# Altium footprint library LED.PcbLib: 20 footprints (part 1 of 2)
Each footprint in its own frame and in the unit in brackets; x right, y up, seen from the top. Pads: shape width x height; smd on the part's side, far side on the other; paste and mask are expansions set on the pad; w line width, h text height; cw(c..) or ccw(c..) is an arc to the next point about the centre after c.
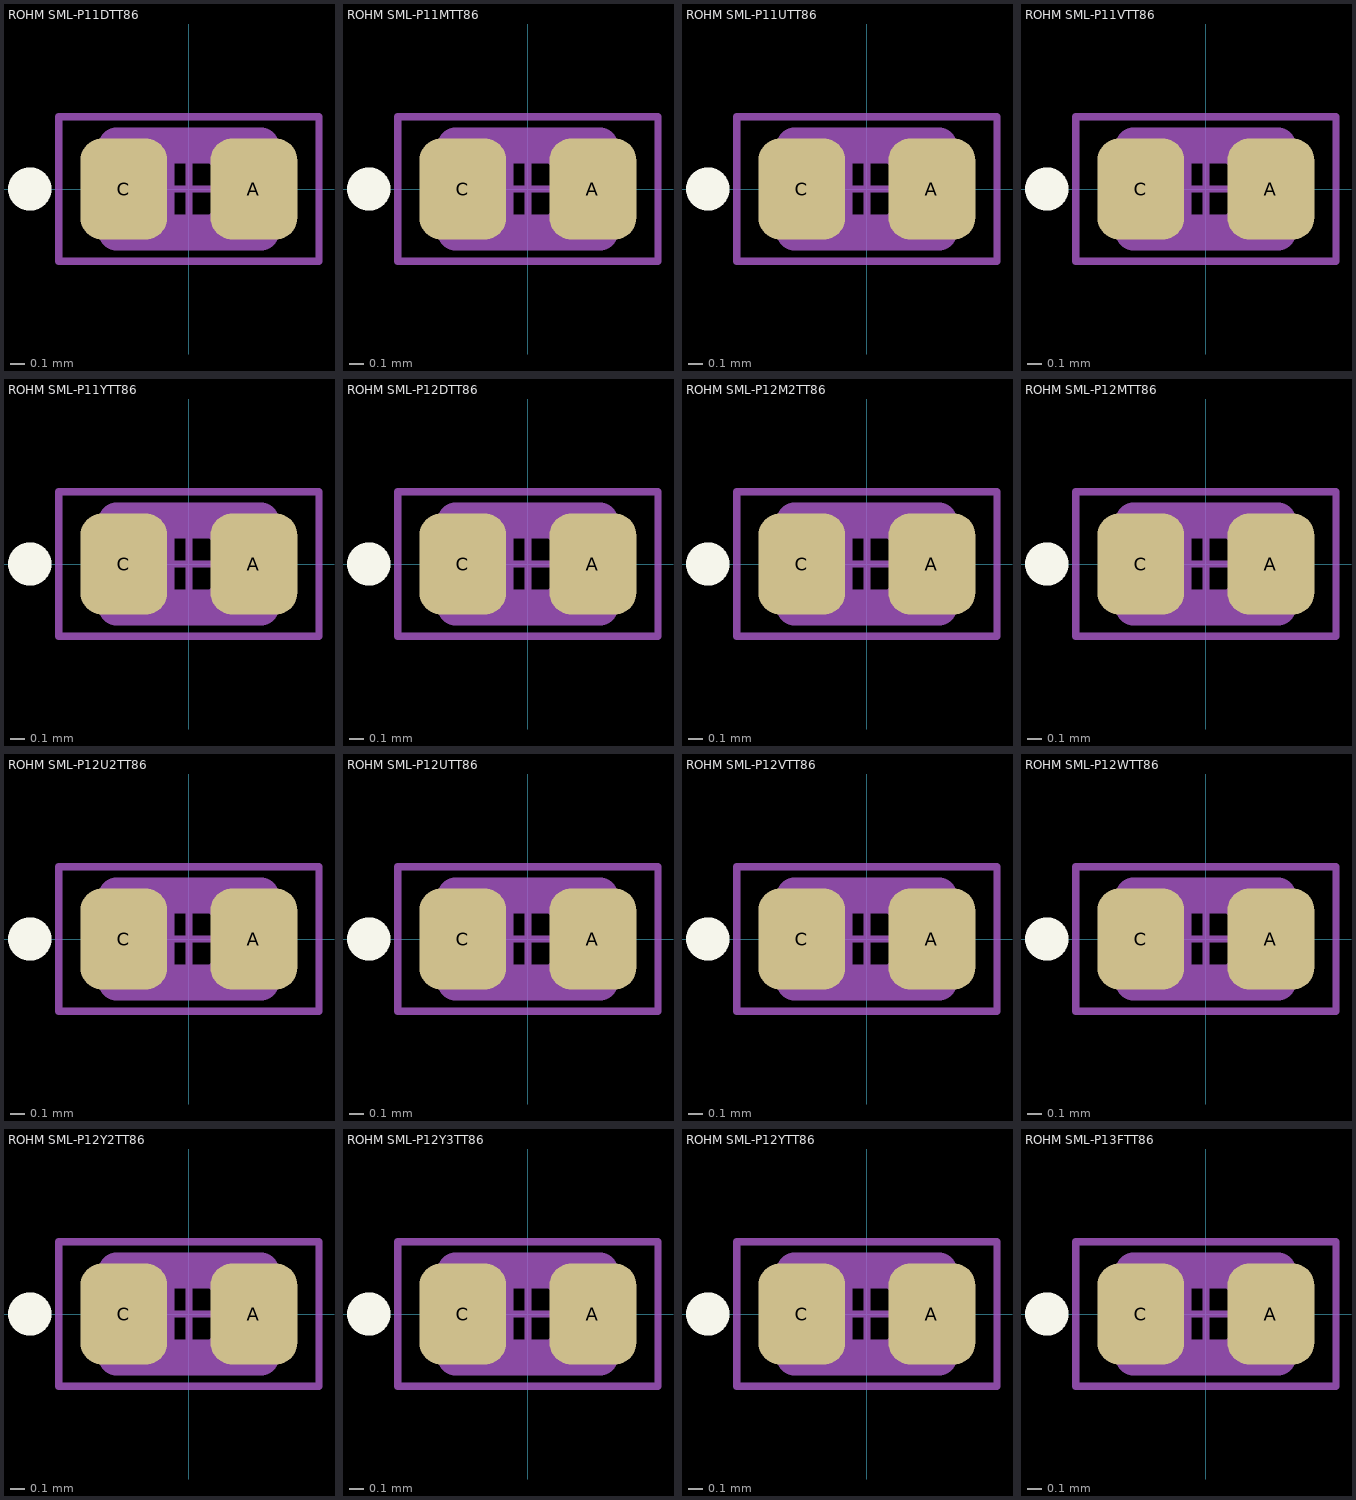
[diagram p0: the footprints below, top view; thin cyan lines are the x and y axes]

## ROHM SML-P11DTT86 [mm] "ROHM LED 0402 Top View Orange (Code D) 1.0x0.6x0.25"
height 0.25
pads (2):
  rrect50% 0.6x0.7 smd: A(0.45,0) C(-0.45,0)
Top Overlay:
  circle w0.15: c-1.1,0 r0.075
Top Assembly:
  rectangle: -0.5,-0.3 -0.1,0.3
  lines w0.25: -0.5,-0.3 -0.5,0.3 0.5,0.3 0.5,-0.3 -0.5,-0.3
  text ".Designator" at -3.378,1.061 h1.5
Top Courtyard:
  circle w0.05: c0,0 r0.25
  lines w0.05: -0.35,0 0.35,0 ; 0,-0.35 0,0.35 ; -0.9,-0.5 -0.9,0.5 0.9,0.5 0.9,-0.5 -0.9,-0.5
3D body "SML-P11DT(R)_Orange.STEP": height 0.2, standoff 0, extent -0.5,-0.3 0.5,0.3

## ROHM SML-P11MTT86 [mm] "ROHM LED 0402 Top View Yellow-green (Code M) 1.0x0.6x0.25"
height 0.25
pads (2):
  rrect50% 0.6x0.7 smd: A(0.45,0) C(-0.45,0)
Top Overlay:
  circle w0.15: c-1.1,0 r0.075
Top Assembly:
  rectangle: -0.5,-0.3 -0.1,0.3
  lines w0.25: -0.5,-0.3 -0.5,0.3 0.5,0.3 0.5,-0.3 -0.5,-0.3
  text ".Designator" at -3.378,1.061 h1.5
Top Courtyard:
  circle w0.05: c0,0 r0.25
  lines w0.05: -0.35,0 0.35,0 ; 0,-0.35 0,0.35 ; -0.9,-0.5 -0.9,0.5 0.9,0.5 0.9,-0.5 -0.9,-0.5
3D body "SML-P11MT(R)_Yellow-green.STEP": height 0.2, standoff 0, extent -0.5,-0.3 0.5,0.3

## ROHM SML-P11UTT86 [mm] "ROHM LED 0402 Top View Red (Code U) 1.0x0.6x0.25"
height 0.25
pads (2):
  rrect50% 0.6x0.7 smd: A(0.45,0) C(-0.45,0)
Top Overlay:
  circle w0.15: c-1.1,0 r0.075
Top Assembly:
  rectangle: -0.5,-0.3 -0.1,0.3
  lines w0.25: -0.5,-0.3 0.5,-0.3 0.5,0.3 -0.5,0.3 -0.5,-0.3
  text ".Designator" at -3.378,1.061 h1.5
Top Courtyard:
  circle w0.05: c0,0 r0.25
  lines w0.05: -0.35,0 0.35,0 ; 0,-0.35 0,0.35 ; -0.9,-0.5 0.9,-0.5 0.9,0.5 -0.9,0.5 -0.9,-0.5
3D body "SML-P11UT(R)_Red.STEP": height 0.2, standoff 0, extent -0.5,-0.3 0.5,0.3

## ROHM SML-P11VTT86 [mm] "ROHM LED 0402 Top View Red (Code V) 1.0x0.6x0.25"
height 0.25
pads (2):
  rrect50% 0.6x0.7 smd: A(0.45,0) C(-0.45,0)
Top Overlay:
  circle w0.15: c-1.1,0 r0.075
Top Assembly:
  rectangle: -0.5,-0.3 -0.1,0.3
  lines w0.25: -0.5,-0.3 0.5,-0.3 0.5,0.3 -0.5,0.3 -0.5,-0.3
  text ".Designator" at -3.378,1.061 h1.5
Top Courtyard:
  circle w0.05: c0,0 r0.25
  lines w0.05: -0.35,0 0.35,0 ; 0,-0.35 0,0.35 ; -0.9,-0.5 0.9,-0.5 0.9,0.5 -0.9,0.5 -0.9,-0.5
3D body "SML-P11VT(R)_Red.STEP": height 0.2, standoff 0, extent -0.5,-0.3 0.5,0.3

## ROHM SML-P11YTT86 [mm] "ROHM LED 0402 Top View Yellow (Code Y) 1.0x0.6x0.25"
height 0.25
pads (2):
  rrect50% 0.6x0.7 smd: A(0.45,0) C(-0.45,0)
Top Overlay:
  circle w0.15: c-1.1,0 r0.075
Top Assembly:
  rectangle: -0.5,-0.3 -0.1,0.3
  lines w0.25: -0.5,-0.3 -0.5,0.3 0.5,0.3 0.5,-0.3 -0.5,-0.3
  text ".Designator" at -3.378,1.061 h1.5
Top Courtyard:
  circle w0.05: c0,0 r0.25
  lines w0.05: -0.35,0 0.35,0 ; 0,-0.35 0,0.35 ; -0.9,-0.5 -0.9,0.5 0.9,0.5 0.9,-0.5 -0.9,-0.5
3D body "SML-P11YT(R)_Yellow.STEP": height 0.2, standoff 0, extent -0.5,-0.3 0.5,0.3

## ROHM SML-P12DTT86 [mm] "ROHM LED 0402 Top View Orange (Code D) 1.0x0.6x0.25"
height 0.25
pads (2):
  rrect50% 0.6x0.7 smd: A(0.45,0) C(-0.45,0)
Top Overlay:
  circle w0.15: c-1.1,0 r0.075
Top Assembly:
  rectangle: -0.5,-0.3 -0.1,0.3
  lines w0.25: -0.5,-0.3 -0.5,0.3 0.5,0.3 0.5,-0.3 -0.5,-0.3
  text ".Designator" at -3.378,1.061 h1.5
Top Courtyard:
  circle w0.05: c0,0 r0.25
  lines w0.05: -0.35,0 0.35,0 ; 0,-0.35 0,0.35 ; -0.9,-0.5 -0.9,0.5 0.9,0.5 0.9,-0.5 -0.9,-0.5
3D body "SML-P12DT(R)_Orange.STEP": height 0.2, standoff 0, extent -0.5,-0.3 0.5,0.3

## ROHM SML-P12M2TT86 [mm] "ROHM LED 0402 Top View Yellow-green (Code M2) 1.0x0.6x0.25"
height 0.25
pads (2):
  rrect50% 0.6x0.7 smd: A(0.45,0) C(-0.45,0)
Top Overlay:
  circle w0.15: c-1.1,0 r0.075
Top Assembly:
  rectangle: -0.5,-0.3 -0.1,0.3
  lines w0.25: -0.5,-0.3 -0.5,0.3 0.5,0.3 0.5,-0.3 -0.5,-0.3
  text ".Designator" at -3.378,1.061 h1.5
Top Courtyard:
  circle w0.05: c0,0 r0.25
  lines w0.05: -0.35,0 0.35,0 ; 0,-0.35 0,0.35 ; -0.9,-0.5 -0.9,0.5 0.9,0.5 0.9,-0.5 -0.9,-0.5
3D body "SML-P12M2T(R)_Yellow-green.STEP": height 0.2, standoff 0, extent -0.5,-0.3 0.5,0.3

## ROHM SML-P12MTT86 [mm] "ROHM LED 0402 Top View Yellow-green (Code M) 1.0x0.6x0.25"
height 0.25
pads (2):
  rrect50% 0.6x0.7 smd: A(0.45,0) C(-0.45,0)
Top Overlay:
  circle w0.15: c-1.1,0 r0.075
Top Assembly:
  rectangle: -0.5,-0.3 -0.1,0.3
  lines w0.25: -0.5,-0.3 -0.5,0.3 0.5,0.3 0.5,-0.3 -0.5,-0.3
  text ".Designator" at -3.378,1.061 h1.5
Top Courtyard:
  circle w0.05: c0,0 r0.25
  lines w0.05: -0.35,0 0.35,0 ; 0,-0.35 0,0.35 ; -0.9,-0.5 -0.9,0.5 0.9,0.5 0.9,-0.5 -0.9,-0.5
3D body "SML-P12MT(R)_Yellow-green.STEP": height 0.2, standoff 0, extent -0.5,-0.3 0.5,0.3

## ROHM SML-P12U2TT86 [mm] "ROHM LED 0402 Top View Red (Code U2) 1.0x0.6x0.25"
height 0.25
pads (2):
  rrect50% 0.6x0.7 smd: A(0.45,0) C(-0.45,0)
Top Overlay:
  circle w0.15: c-1.1,0 r0.075
Top Assembly:
  rectangle: -0.5,-0.3 -0.1,0.3
  lines w0.25: -0.5,-0.3 0.5,-0.3 0.5,0.3 -0.5,0.3 -0.5,-0.3
  text ".Designator" at -3.378,1.061 h1.5
Top Courtyard:
  circle w0.05: c0,0 r0.25
  lines w0.05: -0.35,0 0.35,0 ; 0,-0.35 0,0.35 ; -0.9,-0.5 0.9,-0.5 0.9,0.5 -0.9,0.5 -0.9,-0.5
3D body "SML-P12U2T(R)_Red.STEP": height 0.2, standoff 0, extent -0.5,-0.3 0.5,0.3

## ROHM SML-P12UTT86 [mm] "ROHM LED 0402 Top View Red (Code U) 1.0x0.6x0.25"
height 0.25
pads (2):
  rrect50% 0.6x0.7 smd: A(0.45,0) C(-0.45,0)
Top Overlay:
  circle w0.15: c-1.1,0 r0.075
Top Assembly:
  rectangle: -0.5,-0.3 -0.1,0.3
  lines w0.25: -0.5,-0.3 0.5,-0.3 0.5,0.3 -0.5,0.3 -0.5,-0.3
  text ".Designator" at -3.378,1.061 h1.5
Top Courtyard:
  circle w0.05: c0,0 r0.25
  lines w0.05: -0.35,0 0.35,0 ; 0,-0.35 0,0.35 ; -0.9,-0.5 0.9,-0.5 0.9,0.5 -0.9,0.5 -0.9,-0.5
3D body "SML-P12UT(R)_Red.STEP": height 0.2, standoff 0, extent -0.5,-0.3 0.5,0.3

## ROHM SML-P12VTT86 [mm] "ROHM LED 0402 Top View Red (Code V) 1.0x0.6x0.25"
height 0.25
pads (2):
  rrect50% 0.6x0.7 smd: A(0.45,0) C(-0.45,0)
Top Overlay:
  circle w0.15: c-1.1,0 r0.075
Top Assembly:
  rectangle: -0.5,-0.3 -0.1,0.3
  lines w0.25: -0.5,-0.3 0.5,-0.3 0.5,0.3 -0.5,0.3 -0.5,-0.3
  text ".Designator" at -3.378,1.061 h1.5
Top Courtyard:
  circle w0.05: c0,0 r0.25
  lines w0.05: -0.35,0 0.35,0 ; 0,-0.35 0,0.35 ; -0.9,-0.5 0.9,-0.5 0.9,0.5 -0.9,0.5 -0.9,-0.5
3D body "SML-P12VT(R)_Red.STEP": height 0.2, standoff 0, extent -0.5,-0.3 0.5,0.3

## ROHM SML-P12WTT86 [mm] "ROHM LED 0402 Top View Yellow (Code W) 1.0x0.6x0.25"
height 0.25
pads (2):
  rrect50% 0.6x0.7 smd: A(0.45,0) C(-0.45,0)
Top Overlay:
  circle w0.15: c-1.1,0 r0.075
Top Assembly:
  rectangle: -0.5,-0.3 -0.1,0.3
  lines w0.25: -0.5,-0.3 -0.5,0.3 0.5,0.3 0.5,-0.3 -0.5,-0.3
  text ".Designator" at -3.378,1.061 h1.5
Top Courtyard:
  circle w0.05: c0,0 r0.25
  lines w0.05: -0.35,0 0.35,0 ; 0,-0.35 0,0.35 ; -0.9,-0.5 -0.9,0.5 0.9,0.5 0.9,-0.5 -0.9,-0.5
3D body "SML-P12WT(R)_Yellow.STEP": height 0.2, standoff 0, extent -0.5,-0.3 0.5,0.3

## ROHM SML-P12Y2TT86 [mm] "ROHM LED 0402 Top View Yellow (Code Y2) 1.0x0.6x0.25"
height 0.25
pads (2):
  rrect50% 0.6x0.7 smd: A(0.45,0) C(-0.45,0)
Top Overlay:
  circle w0.15: c-1.1,0 r0.075
Top Assembly:
  rectangle: -0.5,-0.3 -0.1,0.3
  lines w0.25: -0.5,-0.3 -0.5,0.3 0.5,0.3 0.5,-0.3 -0.5,-0.3
  text ".Designator" at -3.378,1.061 h1.5
Top Courtyard:
  circle w0.05: c0,0 r0.25
  lines w0.05: -0.35,0 0.35,0 ; 0,-0.35 0,0.35 ; -0.9,-0.5 -0.9,0.5 0.9,0.5 0.9,-0.5 -0.9,-0.5
3D body "SML-P12Y2T(R)_Yellow.STEP": height 0.2, standoff 0, extent -0.5,-0.3 0.5,0.3

## ROHM SML-P12Y3TT86 [mm] "ROHM LED 0402 Top View Yellow (Code Y3) 1.0x0.6x0.25"
height 0.25
pads (2):
  rrect50% 0.6x0.7 smd: A(0.45,0) C(-0.45,0)
Top Overlay:
  circle w0.15: c-1.1,0 r0.075
Top Assembly:
  rectangle: -0.5,-0.3 -0.1,0.3
  lines w0.25: -0.5,-0.3 0.5,-0.3 0.5,0.3 -0.5,0.3 -0.5,-0.3
  text ".Designator" at -3.378,1.061 h1.5
Top Courtyard:
  circle w0.05: c0,0 r0.25
  lines w0.05: -0.35,0 0.35,0 ; 0,-0.35 0,0.35 ; -0.9,-0.5 0.9,-0.5 0.9,0.5 -0.9,0.5 -0.9,-0.5
3D body "SML-P12Y3T(R)_Yellow.STEP": height 0.2, standoff 0, extent -0.5,-0.3 0.5,0.3

## ROHM SML-P12YTT86 [mm] "ROHM LED 0402 Top View Yellow (Code Y) 1.0x0.6x0.25"
height 0.25
pads (2):
  rrect50% 0.6x0.7 smd: A(0.45,0) C(-0.45,0)
Top Overlay:
  circle w0.15: c-1.1,0 r0.075
Top Assembly:
  rectangle: -0.5,-0.3 -0.1,0.3
  lines w0.25: -0.5,-0.3 0.5,-0.3 0.5,0.3 -0.5,0.3 -0.5,-0.3
  text ".Designator" at -3.378,1.061 h1.5
Top Courtyard:
  circle w0.05: c0,0 r0.25
  lines w0.05: -0.35,0 0.35,0 ; 0,-0.35 0,0.35 ; -0.9,-0.5 0.9,-0.5 0.9,0.5 -0.9,0.5 -0.9,-0.5
3D body "SML-P12YT(R)_Yellow.STEP": height 0.2, standoff 0, extent -0.5,-0.3 0.5,0.3

## ROHM SML-P13FTT86 [mm] "ROHM LED 0402 Top View Green (Code F) 1.0x0.6x0.25"
height 0.25
pads (2):
  rrect50% 0.6x0.7 smd: A(0.45,0) C(-0.45,0)
Top Overlay:
  circle w0.15: c-1.1,0 r0.075
Top Assembly:
  rectangle: -0.5,-0.3 -0.1,0.3
  lines w0.25: -0.5,-0.3 0.5,-0.3 0.5,0.3 -0.5,0.3 -0.5,-0.3
  text ".Designator" at -3.378,1.061 h1.5
Top Courtyard:
  circle w0.05: c0,0 r0.25
  lines w0.05: -0.35,0 0.35,0 ; 0,-0.35 0,0.35 ; -0.9,-0.5 0.9,-0.5 0.9,0.5 -0.9,0.5 -0.9,-0.5
3D body "SML-P13FT(R)_Green.STEP": height 0.2, standoff 0, extent -0.5,-0.3 0.5,0.3